# Altium schematic symbol library E-pico.SchLib: 10 symbols
Pins are listed as number, name and electrical type; pins without a type are passive.

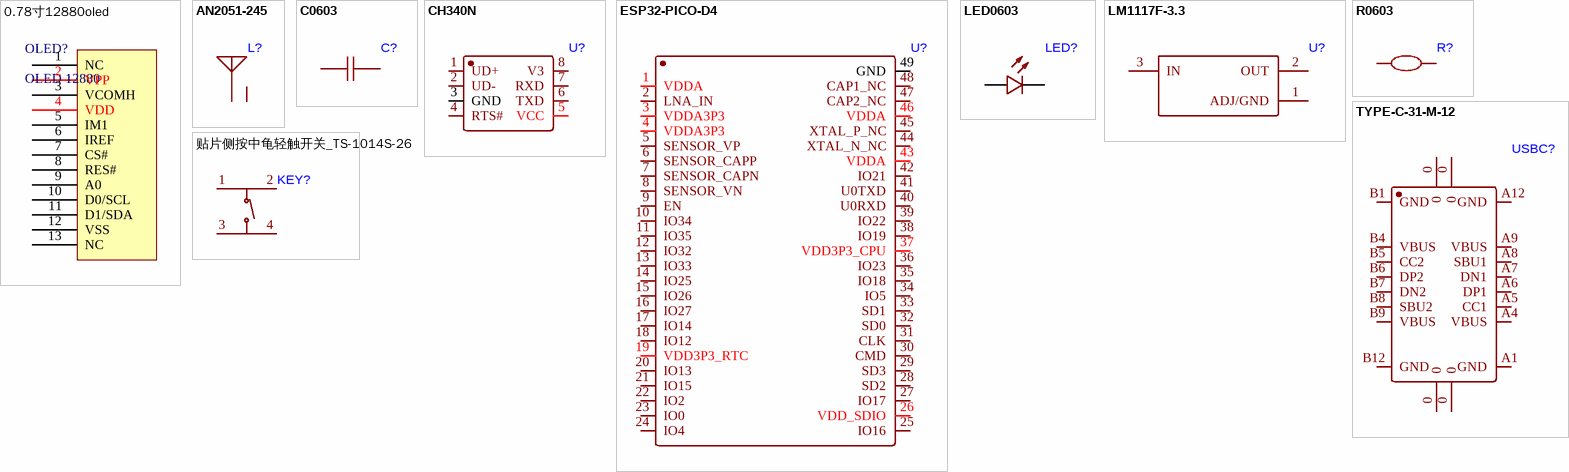
[diagram p0: symbols 0.78寸12880oled to 贴片侧按中龟轻触开关_TS-1014S-26]

## 0.78寸12880oled
designator OLED?, comment OLED 12880
footprint 0.78'OLED-12880-13pin-short
pins: 1 NC, 2 VPP, 3 VCOMH, 4 VDD, 5 IM1, 6 IREF, 7 CS#, 8 RES#, 9 A0, 10 D0/SCL, 11 D1/SDA, 12 VSS, 13 NC

## AN2051-245
designator L?
footprint ANT2051
pins: 1 ANT, 2

## C0603
designator C?
footprint C0603
pins: 1, 2

## CH340N
designator U?
footprint SOP-8_L5.0-W4.0-P1.27-LS6.0-BL
pins: 1 UD+, 2 UD-, 3 GND, 4 RTS#, 5 VCC, 6 TXD, 7 RXD, 8 V3

## ESP32-PICO-D4
designator U?
footprint QFN-48_L7.0-W7.0-P0.50-BL-EP5.4
pins: 1 VDDA, 2 LNA_IN, 3 VDDA3P3, 4 VDDA3P3, 5 SENSOR_VP, 6 SENSOR_CAPP, 7 SENSOR_CAPN, 8 SENSOR_VN, 9 EN, 10 IO34, 11 IO35, 12 IO32, 13 IO33, 14 IO25, 15 IO26, 16 IO27, 17 IO14, 18 IO12, 19 VDD3P3_RTC, 20 IO13, 21 IO15, 22 IO2, 23 IO0, 24 IO4, 25 IO16, 26 VDD_SDIO, 27 IO17, 28 SD2, 29 SD3, 30 CMD, 31 CLK, 32 SD0, 33 SD1, 34 IO5, 35 IO18, 36 IO23, 37 VDD3P3_CPU, 38 IO19, 39 IO22, 40 U0RXD, 41 U0TXD, 42 IO21, 43 VDDA, 44 XTAL_N_NC, 45 XTAL_P_NC, 46 VDDA, 47 CAP2_NC, 48 CAP1_NC, 49 GND

## LED0603
designator LED?
footprint LED0603
pins: 1 A, 2 C

## LM1117F-3.3
designator U?
footprint SOT89-150P410X160-3N (SOT89, 3-Leads, Body 4.50x2.45mm, Pitch 1.50mm, Lead Span 4.1mm, IPC Medium Density)
pins: 1 ADJ/GND, 2 OUT, 3 IN

## R0603
designator R?
footprint R0603
pins: 1, 2

## TYPE-C-31-M-12
designator USBC?
footprint USB-C_SMD-TYPE-C-31-M-12
pins: 0, 0, 0, 0, A1 GND, A4 VBUS, A5 CC1, A6 DP1, A7 DN1, A8 SBU1, A9 VBUS, A12 GND, B1 GND, B4 VBUS, B5 CC2, B6 DP2, B7 DN2, B8 SBU2, B9 VBUS, B12 GND

## 贴片侧按中龟轻触开关_TS-1014S-26
designator KEY?
footprint SW-SMD_TS-1014S-26
pins: 1, 2, 3, 4